# Altium footprint library PCB_OpenT12_精简_2021-10-27.PcbLib: 31 footprints (part 1 of 2)
Each footprint in its own frame and in the unit in brackets; x right, y up, seen from the top. Pads: shape width x height; smd on the part's side, far side on the other; paste and mask are expansions set on the pad; w line width, h text height; cw(c..) or ccw(c..) is an arc to the next point about the centre after c.
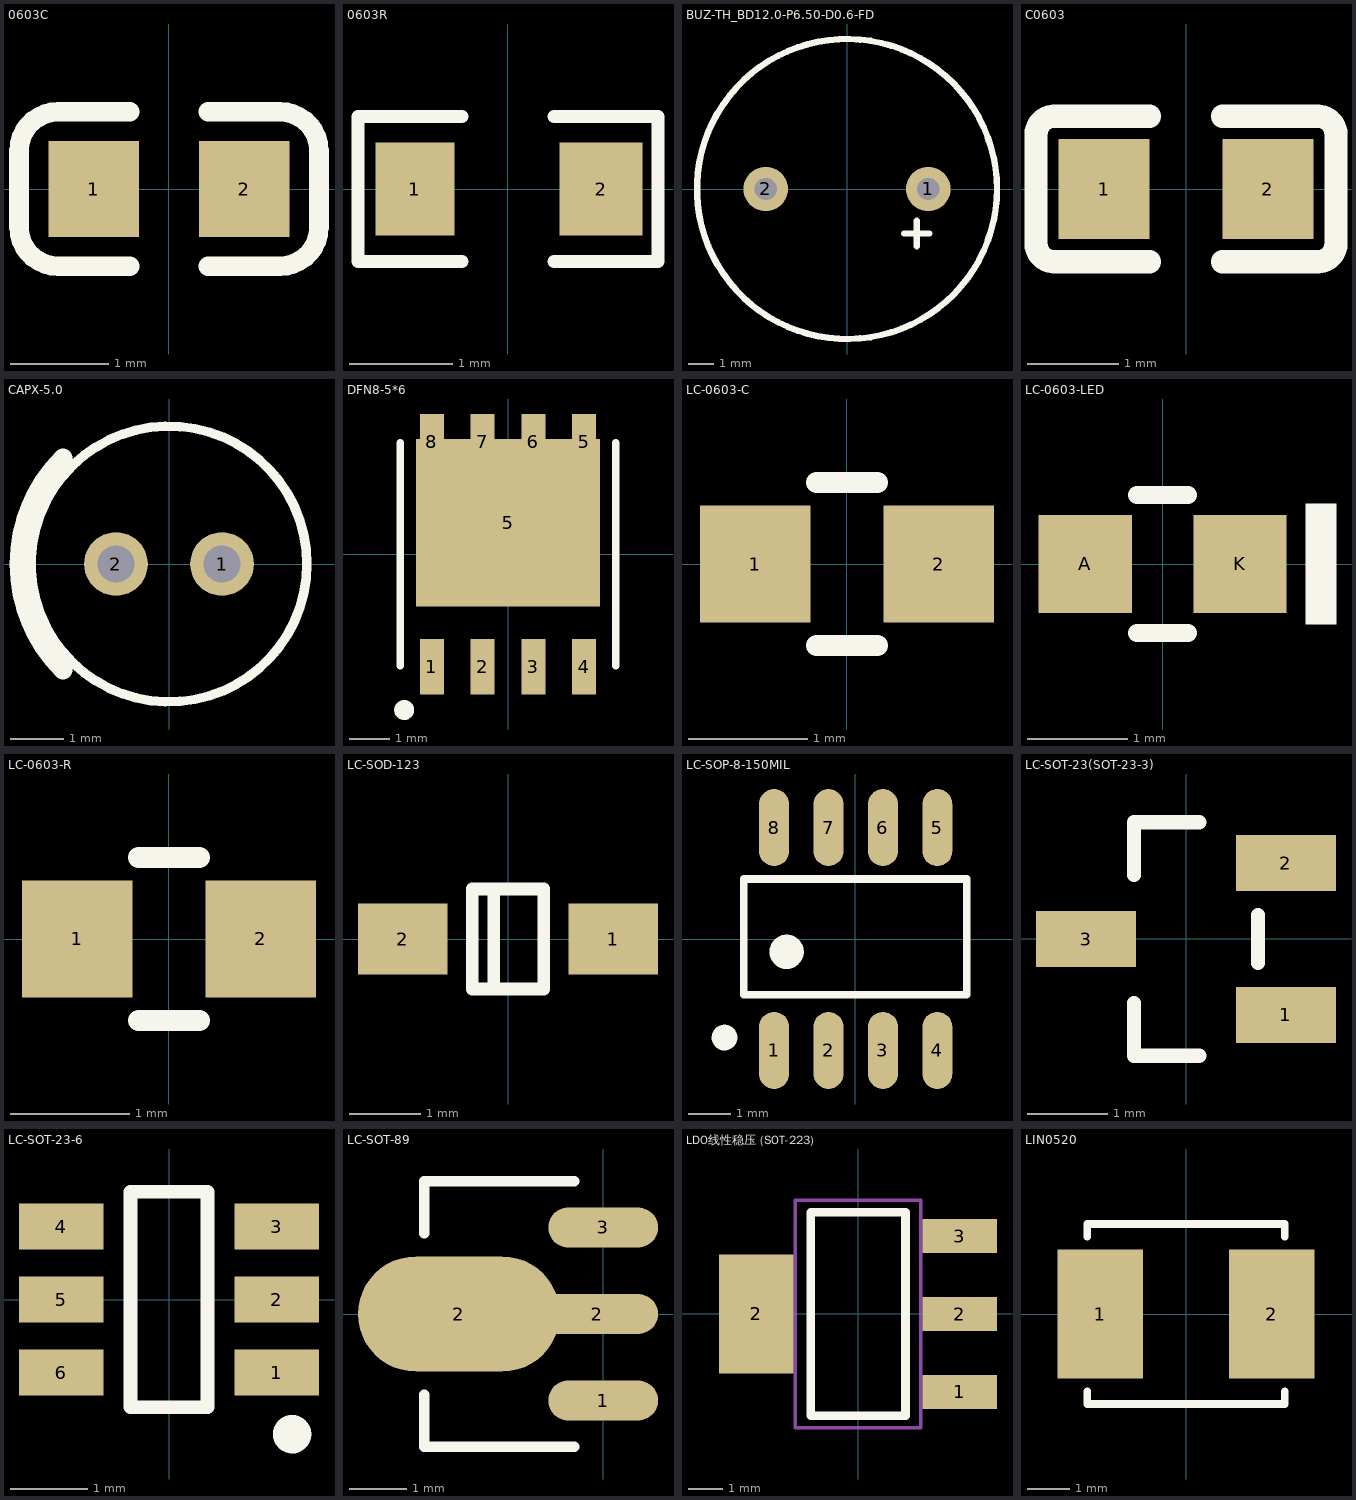
[diagram p0: the footprints below, top view; thin cyan lines are the x and y axes]

## 0603C [mm]
pads (2):
  rect 0.93x0.98 smd: 1(-0.77,0) 2(0.77,0)
Top Overlay:
  lines w0.2: -0.4,-0.79 -1.135,-0.79 cw(c-1.135,-0.39) -1.535,-0.39 -1.535,0.39 cw(c-1.135,0.39) -1.135,0.79 -0.4,0.79 ; 0.4,-0.79 1.135,-0.79 ccw(c1.135,-0.39) 1.535,-0.39 1.535,0.39 ccw(c1.135,0.39) 1.135,0.79 0.4,0.79
3D body "User Library-0603 SMD Capacitor.STEP": height 0.3, standoff 0, extent -0.8,-0.4 0.8,0.4

## 0603R [mm]
pads (2):
  rect 0.762x0.9 smd: 1(-0.9,0)
  rect 0.8x0.9 smd: 2(0.9,0)
Top Overlay:
  lines w0.127: -0.443,-0.7 -1.45,-0.7 -1.45,0.7 -0.443,0.7 ; 0.443,-0.7 1.45,-0.7 1.45,0.7 0.446,0.7
3D body "User Library-RES_1609-0603.STEP": height 0.56, standoff 0, extent -0.85,-0.4 0.85,0.4

## BUZ-TH_BD12.0-P6.50-D0.6-FD [mil]
pads (2):
  round 70 hole 35.4: 1(128,0) 2(-128,0)
Top Overlay:
  circle w10: c0,0 r236.2
  lines w10: 90,-70 130,-70 ; 110,-90 110,-50

## C0603 [mm]
pads (2):
  rect 1x1.1 smd: 1(-0.9,0) 2(0.9,0)
Top Overlay:
  lines w0.254: -0.4,-0.8 -1.4,-0.8 -1.45,-0.8 cw(c-1.45,-0.6) -1.65,-0.6 -1.65,0.6 cw(c-1.45,0.6) -1.45,0.8 -1.4,0.8 -0.4,0.8 ; 0.4,-0.8 1.4,-0.8 1.45,-0.8 ccw(c1.45,-0.6) 1.65,-0.6 1.65,0.6 ccw(c1.45,0.6) 1.45,0.8 1.4,0.8 0.4,0.8

## CAPX-5.0 [mm]
pads (2):
  round 1.2 hole 0.7: 1(1,0) 2(-1,0)
Top Overlay:
  circle w0.178: c0,0 r2.6
  lines w0.356: -2,-2 cw(c0,0) -2,2

## DFN8-5*6 [mm]
pads (9):
  rect 0.6x1.4 smd: 1(-1.905,-2.816) 2(-0.635,-2.816) 3(0.635,-2.816) 4(1.905,-2.816) 5(1.905,2.816) 6(0.635,2.816) 7(-0.635,2.816) 8(-1.905,2.816)
  rect 4.6x4.2 smd: 5(0,0.791)
Top Overlay:
  lines w0.178: -2.7,-2.8 -2.7,0 -2.7,2.8 ; 2.7,-2.8 2.7,0 2.7,2.8
  lines w0.3: -2.5,-3.904 cw(c-2.6,-3.9) -2.5,-3.9

## LC-0603-C [mm]
pads (2):
  rect 0.93x0.98 smd: 1(-0.77,0) 2(0.77,0)
Top Overlay:
  lines w0.178: -0.254,-0.686 0.254,-0.686 ; -0.254,0.686 0.254,0.686

## LC-0603-LED [mm]
pads (2):
  rect 0.93x0.98 smd: A(-0.77,0) K(0.77,0)
Top Overlay:
  region: 1.725,0.6 1.425,0.6 1.425,-0.6 1.725,-0.6
  lines w0.178: -0.254,-0.686 0.254,-0.686 ; -0.254,0.686 0.254,0.686

## LC-0603-R [mm]
pads (2):
  rect 0.93x0.98 smd: 1(-0.77,0) 2(0.77,0)
Top Overlay:
  lines w0.178: -0.254,-0.686 0.254,-0.686 ; -0.254,0.686 0.254,0.686

## LC-SOD-123 [mm]
pads (2):
  rect 1.25x1 smd: 1(1.475,0) 2(-1.475,0)
Top Overlay:
  lines w0.178: -0.2,-0.7 -0.2,0.7 ; -0.5,-0.7 0.5,-0.7 0.5,0.7 -0.5,0.7 -0.5,-0.7

## LC-SOP-8-150MIL [mm]
pads (8):
  oval 0.7x1.8 smd: 1(-1.893,-2.6) 2(-0.623,-2.6) 3(0.647,-2.6) 4(1.917,-2.6) 5(1.917,2.6) 6(0.647,2.6) 7(-0.623,2.6) 8(-1.893,2.6)
Top Overlay:
  lines w0.178: -2.6,-1.3 -2.6,1.4 2.6,1.4 2.6,-1.3 -2.6,-1.3
  lines w0.3: -2.9,-2.307 cw(c-3.05,-2.3) -2.9,-2.3
  lines w0.4: -1.4,-0.304 cw(c-1.6,-0.3) -1.4,-0.3

## LC-SOT-23(SOT-23-3) [mm]
pads (3):
  rect 1.25x0.7 smd: 1(1.25,-0.95) 2(1.25,0.95) 3(-1.25,0)
Top Overlay:
  lines w0.178: -0.65,-0.8 -0.65,-1.46 0.165,-1.46 ; 0.165,1.46 -0.65,1.46 ; 0.9,-0.3 0.9,0.3 ; -0.65,0.8 -0.65,1.46 ; -0.65,0.8 -0.65,1.46 ; -0.65,0.8 -0.65,1.46

## LC-SOT-23-6 [mm]
pads (6):
  rect 1.1x0.6 smd: 1(1.4,-0.95) 2(1.4,0) 3(1.4,0.95) 4(-1.4,0.95) 5(-1.4,0) 6(-1.4,-0.95)
Top Overlay:
  lines w0.178: -0.5,-1.4 0.5,-1.4 0.5,1.4 -0.5,1.4 -0.5,-1.4
  lines w0.25: 1.594,-1.875 cw(c1.6,-1.75) 1.6,-1.875

## LC-SOT-89 [mm]
pads (4):
  oval 1.9x0.7 smd: 1(0,-1.5) 3(0,1.5)
  oval 3.5x2 smd: 2(-2.5,0)
  oval 2.1x0.7 smd: 2(-0.1,0)
Top Overlay:
  lines w0.178: -3.1,-1.4 -3.1,-2.3 -0.5,-2.3 ; -3.1,1.4 -3.1,2.3 -0.5,2.3

## LDO线性稳压 (SOT-223) [mm]
pads (4):
  rect 2.2x1 smd: 1(3,-2.3) 2(3,0) 3(3,2.3)
  rect 2.2x3.5 smd: 2(-3,0)
Top Overlay:
  lines w0.254: -1.4,-3 -1.4,3 1.4,3 1.4,-3 -1.4,-3
Mechanical 13:
  lines w0.1: -1.85,-3.35 1.85,-3.35 1.85,3.35 -1.85,3.35 -1.85,-3.35
3D body "TO-223.STEP": height 1.64, standoff -0.04, extent -3.49,-3.242 3.49,3.243

## LIN0520 [mm]
pads (2):
  rect 2x3 smd: 1(-2,0) 2(2,0)
Top Overlay:
  lines w0.178: -2.3,-1.8 -2.3,-2.1 0,-2.1 2.3,-2.1 2.3,-1.8 ; -2.3,1.8 -2.3,2.1 0,2.1 2.3,2.1 2.3,1.8